# EAGLE library part SI3402 (library BaseApp)
FULLY-INTEGRATED 802.3-COMPLIANT POE PD INTERFACE AND LOW-EMI SWITCHING REGULATOR
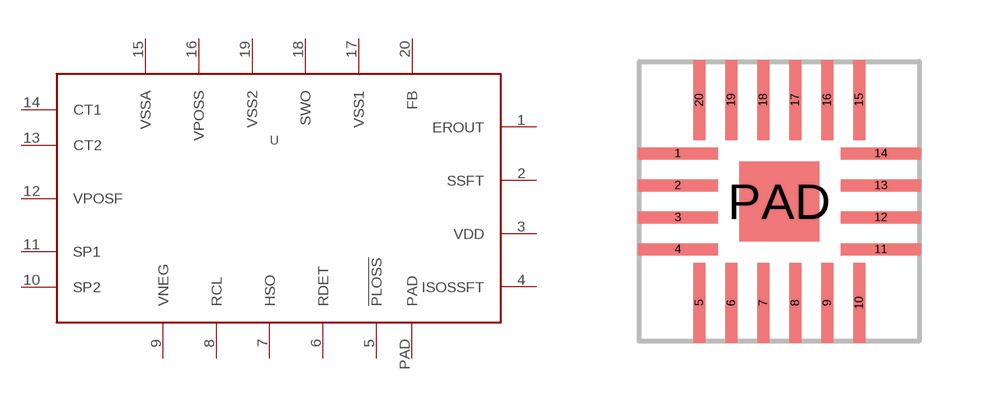
[diagram p113: symbol with the pads of SI3402; footprint SI3402]

Designator prefix -

## SI3402  [SI3402]
1  EROUT
2  SSFT
3  VDD
4  ISOSSFT
5  !PLOSS
6  RDET
7  HSO
8  RCL
9  VNEG
10  SP2
11  SP1
12  VPOSF
13  CT2
14  CT1
15  VSSA
16  VPOSS
17  VSS1
18  SWO
19  VSS2
20  FB
PAD  PAD

## Footprint SI3402 (pad centres in mm)
smd 2 x 0.3: 1 -2.54,1.2; 2 -2.54,0.4; 3 -2.54,-0.4; 4 -2.54,-1.2; 11 2.54,-1.2; 12 2.54,-0.4; 13 2.54,0.4; 14 2.54,1.2
smd 0.3 x 2: 5 -2,-2.54; 6 -1.2,-2.54; 7 -0.4,-2.54; 8 0.4,-2.54; 9 1.2,-2.54; 10 2,-2.54; 15 2,2.54; 16 1.2,2.54; 17 0.4,2.54; 18 -0.4,2.54; 19 -1.2,2.54; 20 -2,2.54
smd 2 x 2: PAD 0,0